# Altium schematic symbol library CVCO55.SchLib: 1 symbol
Pins are listed as number, name and electrical type; pins without a type are passive.

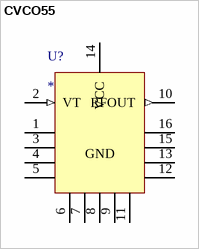
[diagram p0: symbol CVCO55]

## CVCO55
designator U?
Coaxial Resonator Oscillator
pins: 1 GND (power), 2 VT (in), 3 GND (power), 4 GND (power), 5 GND (power), 6 GND (power), 7 GND (power), 8 GND (power), 9 GND (power), 10 RFOUT (out), 11 GND (power), 12 GND (power), 13 GND (power), 14 VCC (power), 15 GND (power), 16 GND (power)